# Altium footprint library FXL0420.PcbLib: 1 footprints
Each footprint in its own frame and in the unit in brackets; x right, y up, seen from the top. Pads: shape width x height; smd on the part's side, far side on the other; paste and mask are expansions set on the pad; w line width, h text height; cw(c..) or ccw(c..) is an arc to the next point about the centre after c.
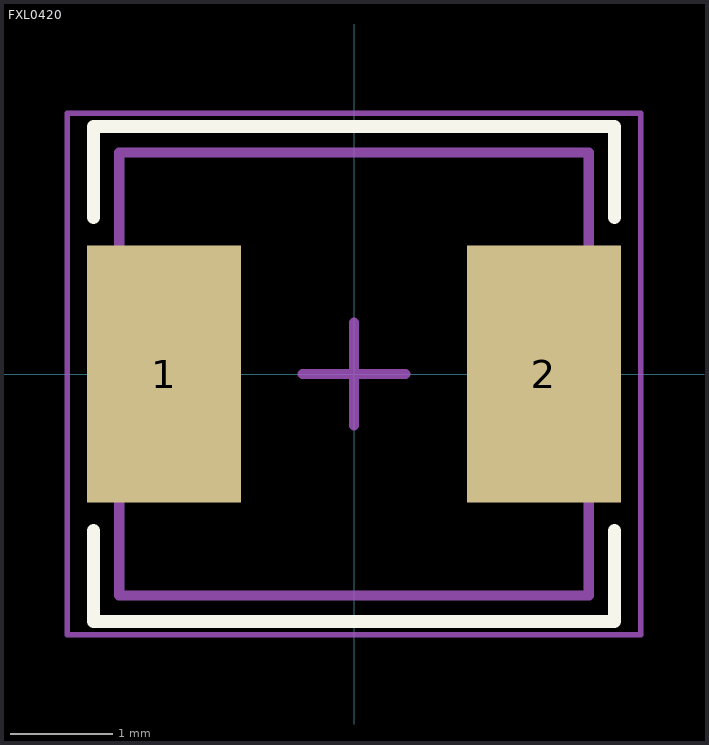
[diagram p0: the footprint, top view; thin cyan lines are the x and y axes]

## FXL0420 [mm]
pads (2):
  rect 1.5x2.5 smd: 1(-1.85,0) 2(1.85,0)
Top Overlay:
  lines w0.127: -2.54,-1.524 -2.54,-2.413 2.54,-2.413 2.54,-1.524 ; -2.54,1.524 -2.54,2.413 2.54,2.413 2.54,1.524
Top Designator:
  text ".Designator" at -5.998,-0.4 h1.2
Mechanical 13:
  lines w0.1: -2.286,-2.159 -2.286,2.159 2.286,2.159 2.286,-2.159 -2.286,-2.159
Mechanical 15:
  lines w0.05: -2.794,-2.54 -2.794,2.54 2.794,2.54 2.794,-2.54 -2.794,-2.54
  lines w0.1: -0.5,0 0.5,0 ; 0,-0.5 0,0.5
3D body "IND_FXL0420_CMT.step": height 2.01, standoff 0, extent -2.375,-2.222 2.375,2.222